# EAGLE library part SENSOR_RAIL (library AlarisHandLib)
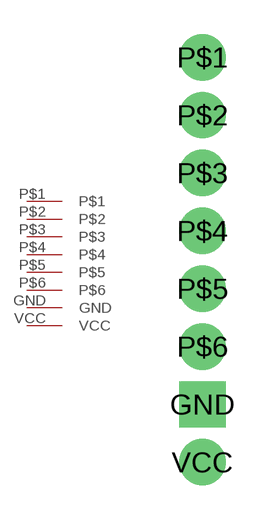
[diagram p1: symbol with the pads of SENSOR_RAIL; footprint SENSOR_RAIL]

Designator prefix -

## SENSOR_RAIL  [SENSOR_RAIL]
GND  GND
P$1  P$1
P$2  P$2
P$3  P$3
P$4  P$4
P$5  P$5
P$6  P$6
VCC  VCC

## Footprint SENSOR_RAIL (pad centres in mm)
drill 1.016 pad 2.032 square: GND 0,-15.24
drill 1.016 pad 2.032: P$1 0,0; P$2 0,-2.54; P$3 0,-5.08; P$4 0,-7.62; P$5 0,-10.16; P$6 0,-12.7; VCC 0,-17.78